# Altium footprint library Package_TO_SOT_THT.PcbLib: 236 footprints (part 13 of 15)
Each footprint in its own frame and in the unit in brackets; x right, y up, seen from the top. Pads: shape width x height; smd on the part's side, far side on the other; paste and mask are expansions set on the pad; w line width, h text height; cw(c..) or ccw(c..) is an arc to the next point about the centre after c.
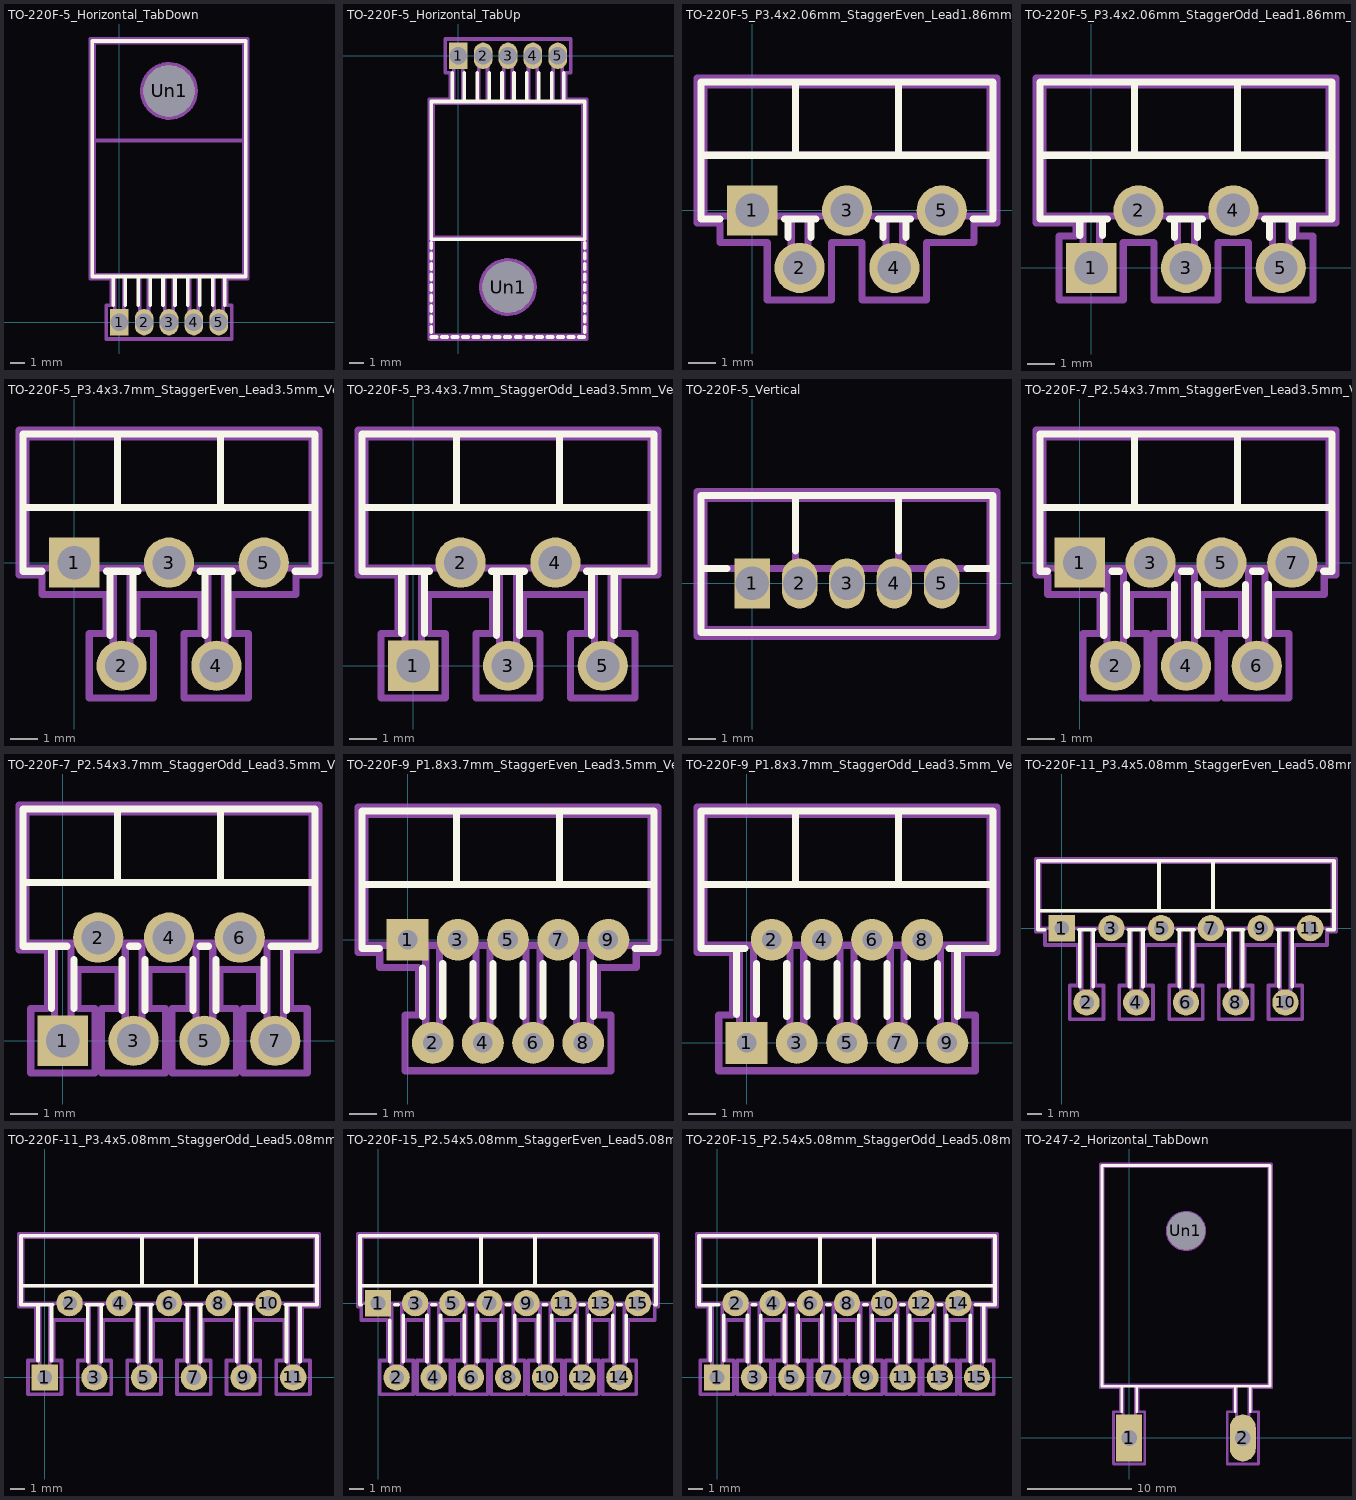
[diagram p12: the footprints below, top view; thin cyan lines are the x and y axes]

## TO-220F-5_Horizontal_TabDown [mm]
pads (6):
  rect 1.275x1.8 hole 1.2: 1(0,0)
  rrect100% 1.275x1.8 hole 1.2: 2(1.7,0) 3(3.4,0) 4(5.1,0) 5(6.8,0)
  round 3.5 hole 3.5: Un1(3.4,15.8)
F.SilkS:
  lines w0.254: -0.41,1.16 -0.41,3.12 ; 0.41,1.16 0.41,3.12 ; 1.29,1.16 1.29,3.12 ; 2.11,1.16 2.11,3.12 ; 2.99,1.16 2.99,3.12 ; 3.81,1.16 3.81,3.12 ; 4.69,1.16 4.69,3.12 ; 5.51,1.16 5.51,3.12 ; 6.39,1.16 6.39,3.12 ; 7.21,1.16 7.21,3.12 ; -1.84,3.12 -1.84,19.21 8.64,19.21 8.64,3.12 -1.84,3.12
F.Fab:
  circle w0.254: c3.4,15.8 r1.85
  lines w0.254: -1.73,12.42 -1.73,19.1 8.53,19.1 8.53,12.42 ; -1.73,12.42 8.53,12.42 ; -1.73,12.42 -1.73,3.23 8.53,3.23 8.53,12.42 ; -1.73,12.42 8.53,12.42 ; -0.3,0 -0.3,3.23 0.3,3.23 0.3,0 -0.3,0 ; 1.4,0 1.4,3.23 2,3.23 2,0 1.4,0 ; 3.1,0 3.1,3.23 3.7,3.23 3.7,0 3.1,0 ; 4.8,0 4.8,3.23 5.4,3.23 5.4,0 4.8,0 ; 6.5,0 6.5,3.23 7.1,3.23 7.1,0 6.5,0
  text "'.Designator'" at -0.647,8.26 h1
F.CrtYd:
  lines w0.254: -1.98,2.98 -1.98,19.35 8.78,19.35 8.78,2.98 7.35,2.98 7.35,1.15 7.69,1.15 7.69,-1.15 -0.89,-1.15 -0.89,1.15 -0.55,1.15 -0.55,2.98 -1.98,2.98

## TO-220F-5_Horizontal_TabUp [mm]
pads (6):
  rect 1.275x1.8 hole 1.2: 1(0,0)
  rrect100% 1.275x1.8 hole 1.2: 2(1.7,0) 3(3.4,0) 4(5.1,0) 5(6.8,0)
  round 3.5 hole 3.5: Un1(3.4,-15.8)
F.SilkS:
  lines w0.254: -1.84,-19.21 -1.48,-19.21 ; -1.84,-18.89 -1.84,-18.53 ; -1.84,-18.17 -1.84,-17.81 ; -1.84,-17.45 -1.84,-17.09 ; -1.84,-16.73 -1.84,-16.37 ; -1.84,-16.01 -1.84,-15.65 ; -1.84,-15.29 -1.84,-14.93 ; -1.84,-14.57 -1.84,-14.21 ; -1.84,-13.85 -1.84,-13.49 ; -1.84,-13.13 -1.84,-12.77 ; -1.12,-19.21 -0.76,-19.21 ; -0.41,-3.12 -0.41,-1.16 ; -0.4,-19.21 -0.04,-19.21 ; 0.32,-19.21 0.68,-19.21 ; 0.41,-3.12 0.41,-1.16 ; 1.04,-19.21 1.4,-19.21 ; 1.29,-3.12 1.29,-1.16 ; 1.76,-19.21 2.12,-19.21 ; 2.11,-3.12 2.11,-1.16 ; 2.48,-19.21 2.84,-19.21 ; 2.99,-3.12 2.99,-1.16 ; 3.2,-19.21 3.56,-19.21 ; 3.81,-3.12 3.81,-1.16 ; 3.92,-19.21 4.28,-19.21 ; 4.64,-19.21 5,-19.21 ; 4.69,-3.12 4.69,-1.16 ; 5.36,-19.21 5.72,-19.21 ; 5.51,-3.12 5.51,-1.16 ; 6.08,-19.21 6.44,-19.21 ; 6.39,-3.12 6.39,-1.16 ; 6.8,-19.21 7.16,-19.21 ; 7.21,-3.12 7.21,-1.16 ; 7.52,-19.21 7.88,-19.21 ; 8.24,-19.21 8.6,-19.21 ; 8.64,-18.89 8.64,-18.53 ; 8.64,-18.17 8.64,-17.81 ; 8.64,-17.45 8.64,-17.09 ; 8.64,-16.73 8.64,-16.37 ; 8.64,-16.01 8.64,-15.65 ; 8.64,-15.29 8.64,-14.93 ; 8.64,-14.57 8.64,-14.21 ; 8.64,-13.85 8.64,-13.49 ; 8.64,-13.13 8.64,-12.77 ; -1.84,-12.53 -1.84,-3.12 8.64,-3.12 8.64,-12.53 -1.84,-12.53
F.Fab:
  circle w0.254: c3.4,-15.8 r1.85
  lines w0.254: -1.73,-12.42 -1.73,-3.23 8.53,-3.23 8.53,-12.42 ; -1.73,-12.42 8.53,-12.42 ; -1.73,-12.42 -1.73,-19.1 8.53,-19.1 8.53,-12.42 ; -1.73,-12.42 8.53,-12.42 ; -0.3,-3.23 -0.3,0 0.3,0 0.3,-3.23 -0.3,-3.23 ; 1.4,-3.23 1.4,0 2,0 2,-3.23 1.4,-3.23 ; 3.1,-3.23 3.1,0 3.7,0 3.7,-3.23 3.1,-3.23 ; 4.8,-3.23 4.8,0 5.4,0 5.4,-3.23 4.8,-3.23 ; 6.5,-3.23 6.5,0 7.1,0 7.1,-3.23 6.5,-3.23
  text "'.Designator'" at -0.647,-9.94 h1
F.CrtYd:
  lines w0.254: -1.98,-19.35 -1.98,-2.98 -0.55,-2.98 -0.55,-1.15 -0.89,-1.15 -0.89,1.15 7.69,1.15 7.69,-1.15 7.35,-1.15 7.35,-2.98 8.78,-2.98 8.78,-19.35 -1.98,-19.35

## TO-220F-5_P3.4x2.06mm_StaggerEven_Lead1.86mm_Vertical [mm]
pads (5):
  rect 1.8x1.8 hole 1.2: 1(0,0)
  round 1.8 hole 1.2: 2(1.7,-2.06) 3(3.4,0) 4(5.1,-2.06) 5(6.8,0)
F.SilkS:
  lines w0.254: -1.84,1.98 8.64,1.98 ; -1.16,-0.31 -1.84,-0.31 -1.84,4.61 8.64,4.61 8.64,-0.31 7.918,-0.31 ; 1.16,-0.31 2.282,-0.31 ; 1.29,-0.975 1.29,-0.31 ; 1.55,1.98 1.55,4.61 ; 2.11,-0.975 2.11,-0.31 ; 4.518,-0.31 5.682,-0.31 ; 4.69,-0.975 4.69,-0.31 ; 5.25,1.98 5.25,4.61 ; 5.51,-0.975 5.51,-0.31
F.Fab:
  lines w0.254: -1.73,1.98 8.53,1.98 ; 1.55,1.98 1.55,4.5 ; 5.25,1.98 5.25,4.5 ; -1.73,-0.2 -1.73,4.5 8.53,4.5 8.53,-0.2 -1.73,-0.2 ; 1.4,-2.06 1.4,-0.2 2,-0.2 2,-2.06 1.4,-2.06 ; 4.8,-2.06 4.8,-0.2 5.4,-0.2 5.4,-2.06 4.8,-2.06
  text "'.Designator'" at -0.647,1.31 h1
F.CrtYd:
  lines w0.254: -1.98,-0.45 -1.98,4.75 8.78,4.75 8.78,-0.45 7.95,-0.45 7.95,-1.15 6.25,-1.15 6.25,-3.21 3.94,-3.21 3.94,-1.15 2.85,-1.15 2.85,-3.21 0.54,-3.21 0.54,-1.15 -1.15,-1.15 -1.15,-0.45 -1.98,-0.45

## TO-220F-5_P3.4x2.06mm_StaggerOdd_Lead1.86mm_Vertical [mm]
pads (5):
  rect 1.8x1.8 hole 1.2: 1(0,0)
  round 1.8 hole 1.2: 2(1.7,2.06) 3(3.4,0) 4(5.1,2.06) 5(6.8,0)
F.SilkS:
  lines w0.254: -1.84,4.04 8.64,4.04 ; -0.41,1.16 -0.41,1.75 ; 0.41,1.16 0.41,1.75 ; 0.582,1.75 -1.84,1.75 -1.84,6.67 8.64,6.67 8.64,1.75 6.218,1.75 ; 1.55,4.04 1.55,6.67 ; 2.818,1.75 3.982,1.75 ; 2.99,1.085 2.99,1.75 ; 3.81,1.085 3.81,1.75 ; 5.25,4.04 5.25,6.67 ; 6.39,1.085 6.39,1.75 ; 7.21,1.085 7.21,1.75
F.Fab:
  lines w0.254: -1.73,4.04 8.53,4.04 ; 1.55,4.04 1.55,6.56 ; 5.25,4.04 5.25,6.56 ; -1.73,1.86 -1.73,6.56 8.53,6.56 8.53,1.86 -1.73,1.86 ; -0.3,0 -0.3,1.86 0.3,1.86 0.3,0 -0.3,0 ; 3.1,0 3.1,1.86 3.7,1.86 3.7,0 3.1,0 ; 6.5,0 6.5,1.86 7.1,1.86 7.1,0 6.5,0
  text "'.Designator'" at -0.647,3.37 h1
F.CrtYd:
  lines w0.254: -1.98,1.61 -1.98,6.81 8.78,6.81 8.78,1.61 7.35,1.61 7.35,1.15 7.95,1.15 7.95,-1.15 5.64,-1.15 5.64,0.91 4.55,0.91 4.55,-1.15 2.25,-1.15 2.25,0.91 1.15,0.91 1.15,-1.15 -1.15,-1.15 -1.15,1.15 -0.55,1.15 -0.55,1.61 -1.98,1.61

## TO-220F-5_P3.4x3.7mm_StaggerEven_Lead3.5mm_Vertical [mm]
pads (5):
  rect 1.8x1.8 hole 1.2: 1(0,0)
  round 1.8 hole 1.2: 2(1.7,-3.7) 3(3.4,0) 4(5.1,-3.7) 5(6.8,0)
F.SilkS:
  lines w0.254: -1.84,1.98 8.64,1.98 ; -1.16,-0.31 -1.84,-0.31 -1.84,4.61 8.64,4.61 8.64,-0.31 7.918,-0.31 ; 1.16,-0.31 2.282,-0.31 ; 1.29,-2.615 1.29,-0.31 ; 1.55,1.98 1.55,4.61 ; 2.11,-2.615 2.11,-0.31 ; 4.518,-0.31 5.682,-0.31 ; 4.69,-2.615 4.69,-0.31 ; 5.25,1.98 5.25,4.61 ; 5.51,-2.615 5.51,-0.31
F.Fab:
  lines w0.254: -1.73,1.98 8.53,1.98 ; 1.55,1.98 1.55,4.5 ; 5.25,1.98 5.25,4.5 ; -1.73,-0.2 -1.73,4.5 8.53,4.5 8.53,-0.2 -1.73,-0.2 ; 1.4,-3.7 1.4,-0.2 2,-0.2 2,-3.7 1.4,-3.7 ; 4.8,-3.7 4.8,-0.2 5.4,-0.2 5.4,-3.7 4.8,-3.7
  text "'.Designator'" at -0.647,1.31 h1
F.CrtYd:
  lines w0.254: -1.98,-0.45 -1.98,4.75 8.78,4.75 8.78,-0.45 7.95,-0.45 7.95,-1.15 5.65,-1.15 5.65,-2.55 6.25,-2.55 6.25,-4.85 3.94,-4.85 3.94,-2.55 4.55,-2.55 4.55,-1.15 2.25,-1.15 2.25,-2.55 2.85,-2.55 2.85,-4.85 0.54,-4.85 0.54,-2.55 1.15,-2.55 1.15,-1.15 -1.15,-1.15 -1.15,-0.45 -1.98,-0.45

## TO-220F-5_P3.4x3.7mm_StaggerOdd_Lead3.5mm_Vertical [mm]
pads (5):
  rect 1.8x1.8 hole 1.2: 1(0,0)
  round 1.8 hole 1.2: 2(1.7,3.7) 3(3.4,0) 4(5.1,3.7) 5(6.8,0)
F.SilkS:
  lines w0.254: -1.84,5.68 8.64,5.68 ; -0.41,1.16 -0.41,3.39 ; 0.41,1.16 0.41,3.39 ; 0.582,3.39 -1.84,3.39 -1.84,8.31 8.64,8.31 8.64,3.39 6.218,3.39 ; 1.55,5.68 1.55,8.31 ; 2.818,3.39 3.982,3.39 ; 2.99,1.085 2.99,3.39 ; 3.81,1.085 3.81,3.39 ; 5.25,5.68 5.25,8.31 ; 6.39,1.085 6.39,3.39 ; 7.21,1.085 7.21,3.39
F.Fab:
  lines w0.254: -1.73,5.68 8.53,5.68 ; 1.55,5.68 1.55,8.2 ; 5.25,5.68 5.25,8.2 ; -1.73,3.5 8.53,3.5 8.53,8.2 -1.73,8.2 -1.73,3.5 ; -0.3,0 0.3,0 0.3,3.5 -0.3,3.5 -0.3,0 ; 3.1,0 3.7,0 3.7,3.5 3.1,3.5 3.1,0 ; 6.5,0 7.1,0 7.1,3.5 6.5,3.5 6.5,0
  text "'.Designator'" at -0.647,5.01 h1
F.CrtYd:
  lines w0.254: -1.98,3.25 -0.55,3.25 -0.55,1.15 -1.15,1.15 -1.15,-1.15 1.15,-1.15 1.15,1.15 0.55,1.15 0.55,2.55 2.85,2.55 2.85,1.15 2.25,1.15 2.25,-1.15 4.55,-1.15 4.55,1.15 3.95,1.15 3.95,2.55 6.25,2.55 6.25,1.15 5.64,1.15 5.64,-1.15 7.95,-1.15 7.95,1.15 7.35,1.15 7.35,3.25 8.78,3.25 8.78,8.45 -1.98,8.45 -1.98,3.25

## TO-220F-5_Vertical [mm]
pads (5):
  rect 1.275x1.8 hole 1.2: 1(0,0)
  rrect100% 1.275x1.8 hole 1.2: 2(1.7,0) 3(3.4,0) 4(5.1,0) 5(6.8,0)
F.SilkS:
  lines w0.254: -1.84,0.527 -0.898,0.527 ; 1.55,1.16 1.55,3.157 ; 5.25,1.16 5.25,3.157 ; 7.698,0.527 8.64,0.527 ; -1.84,-1.763 8.64,-1.763 8.64,3.157 -1.84,3.157 -1.84,-1.763
F.Fab:
  lines w0.254: -1.73,0.527 8.53,0.527 ; 1.55,0.527 1.55,3.047 ; 5.25,0.527 5.25,3.047 ; -1.73,-1.653 8.53,-1.653 8.53,3.047 -1.73,3.047 -1.73,-1.653
  text "'.Designator'" at -0.647,-0.14 h1
F.CrtYd:
  lines w0.254: -1.98,-1.91 8.78,-1.91 8.78,3.3 -1.98,3.3 -1.98,-1.91

## TO-220F-7_P2.54x3.7mm_StaggerEven_Lead3.5mm_Vertical [mm]
pads (7):
  rect 1.8x1.8 hole 1.2: 1(0,0)
  round 1.8 hole 1.2: 2(1.27,-3.7) 3(2.54,0) 4(3.81,-3.7) 5(5.08,0) 6(6.35,-3.7) 7(7.62,0)
F.SilkS:
  lines w0.254: -1.43,1.98 9.05,1.98 ; -1.16,-0.31 -1.43,-0.31 -1.43,4.61 9.05,4.61 9.05,-0.31 8.738,-0.31 ; 0.86,-2.615 0.86,-1.16 ; 1.16,-0.31 1.422,-0.31 ; 1.68,-2.615 1.68,-0.778 ; 1.96,1.98 1.96,4.61 ; 3.4,-2.615 3.4,-0.778 ; 3.658,-0.31 3.962,-0.31 ; 4.22,-2.615 4.22,-0.778 ; 5.66,1.98 5.66,4.61 ; 5.94,-2.615 5.94,-0.778 ; 6.198,-0.31 6.502,-0.31 ; 6.76,-2.615 6.76,-0.778
F.Fab:
  lines w0.254: -1.32,1.98 8.94,1.98 ; 1.96,1.98 1.96,4.5 ; 5.66,1.98 5.66,4.5 ; -1.32,-0.2 -1.32,4.5 8.94,4.5 8.94,-0.2 -1.32,-0.2 ; 0.97,-3.7 0.97,-0.2 1.57,-0.2 1.57,-3.7 0.97,-3.7 ; 3.51,-3.7 3.51,-0.2 4.11,-0.2 4.11,-3.7 3.51,-3.7 ; 6.05,-3.7 6.05,-0.2 6.65,-0.2 6.65,-3.7 6.05,-3.7
  text "'.Designator'" at -0.237,1.31 h1
F.CrtYd:
  lines w0.254: -1.57,-0.45 -1.57,4.75 9.19,4.75 9.19,-0.45 8.77,-0.45 8.77,-1.15 6.9,-1.15 6.9,-2.55 7.5,-2.55 7.5,-4.85 5.19,-4.85 5.19,-2.55 5.8,-2.55 5.8,-1.15 4.36,-1.15 4.36,-2.55 4.96,-2.55 4.96,-4.85 2.66,-4.85 2.66,-2.55 3.26,-2.55 3.26,-1.15 1.82,-1.15 1.82,-2.55 2.42,-2.55 2.42,-4.85 0.12,-4.85 0.12,-2.55 0.72,-2.55 0.72,-1.15 -1.15,-1.15 -1.15,-0.45 -1.57,-0.45

## TO-220F-7_P2.54x3.7mm_StaggerOdd_Lead3.5mm_Vertical [mm]
pads (7):
  rect 1.8x1.8 hole 1.2: 1(0,0)
  round 1.8 hole 1.2: 2(1.27,3.7) 3(2.54,0) 4(3.81,3.7) 5(5.08,0) 6(6.35,3.7) 7(7.62,0)
F.SilkS:
  lines w0.254: -1.43,5.68 9.05,5.68 ; -0.41,1.16 -0.41,3.39 ; 0.152,3.39 -1.43,3.39 -1.43,8.31 9.05,8.31 9.05,3.39 7.468,3.39 ; 0.41,1.16 0.41,2.922 ; 1.96,5.68 1.96,8.31 ; 2.13,1.085 2.13,2.922 ; 2.388,3.39 2.692,3.39 ; 2.95,1.085 2.95,2.922 ; 4.67,1.085 4.67,2.922 ; 4.928,3.39 5.232,3.39 ; 5.49,1.085 5.49,2.922 ; 5.66,5.68 5.66,8.31 ; 7.21,1.085 7.21,2.922 ; 8.03,1.085 8.03,3.39
F.Fab:
  lines w0.254: -1.32,5.68 8.94,5.68 ; 1.96,5.68 1.96,8.2 ; 5.66,5.68 5.66,8.2 ; -1.32,3.5 -1.32,8.2 8.94,8.2 8.94,3.5 -1.32,3.5 ; -0.3,0 -0.3,3.5 0.3,3.5 0.3,0 -0.3,0 ; 2.24,0 2.24,3.5 2.84,3.5 2.84,0 2.24,0 ; 4.78,0 4.78,3.5 5.38,3.5 5.38,0 4.78,0 ; 7.32,0 7.32,3.5 7.92,3.5 7.92,0 7.32,0
  text "'.Designator'" at -0.237,5.01 h1
F.CrtYd:
  lines w0.254: -1.57,3.25 -1.57,8.45 9.19,8.45 9.19,3.25 8.17,3.25 8.17,1.15 8.77,1.15 8.77,-1.15 6.46,-1.15 6.46,1.15 7.06,1.15 7.06,2.55 5.63,2.55 5.63,1.15 6.23,1.15 6.23,-1.15 3.92,-1.15 3.92,1.15 4.53,1.15 4.53,2.55 3.09,2.55 3.09,1.15 3.69,1.15 3.69,-1.15 1.39,-1.15 1.39,1.15 1.99,1.15 1.99,2.55 0.55,2.55 0.55,1.15 1.15,1.15 1.15,-1.15 -1.15,-1.15 -1.15,1.15 -0.55,1.15 -0.55,3.25 -1.57,3.25

## TO-220F-9_P1.8x3.7mm_StaggerEven_Lead3.5mm_Vertical [mm]
pads (9):
  rect 1.5x1.5 hole 0.7: 1(0,0)
  round 1.5 hole 0.7: 2(0.9,-3.7) 3(1.8,0) 4(2.7,-3.7) 5(3.6,0) 6(4.5,-3.7) 7(5.4,0) 8(6.3,-3.7) 9(7.2,0)
F.SilkS:
  lines w0.254: -1.64,1.98 8.84,1.98 ; -1.01,-0.31 -1.64,-0.31 -1.64,4.61 8.84,4.61 8.84,-0.31 8.161,-0.31 ; 0.54,-2.756 0.54,-1.01 ; 1.26,-2.756 1.26,-0.854 ; 1.75,1.98 1.75,4.61 ; 2.34,-2.756 2.34,-0.854 ; 3.06,-2.756 3.06,-0.854 ; 4.14,-2.756 4.14,-0.854 ; 4.86,-2.756 4.86,-0.854 ; 5.45,1.98 5.45,4.61 ; 5.94,-2.756 5.94,-0.854 ; 6.66,-2.756 6.66,-0.854
F.Fab:
  lines w0.254: -1.53,1.98 8.73,1.98 ; 1.75,1.98 1.75,4.5 ; 5.45,1.98 5.45,4.5 ; -1.53,-0.2 -1.53,4.5 8.73,4.5 8.73,-0.2 -1.53,-0.2 ; 0.65,-3.7 0.65,-0.2 1.15,-0.2 1.15,-3.7 0.65,-3.7 ; 2.45,-3.7 2.45,-0.2 2.95,-0.2 2.95,-3.7 2.45,-3.7 ; 4.25,-3.7 4.25,-0.2 4.75,-0.2 4.75,-3.7 4.25,-3.7 ; 6.05,-3.7 6.05,-0.2 6.55,-0.2 6.55,-3.7 6.05,-3.7
  text "'.Designator'" at -0.447,1.31 h1
F.CrtYd:
  lines w0.254: -1.78,-0.45 -1.78,4.75 8.98,4.75 8.98,-0.45 8.2,-0.45 8.2,-1 6.8,-1 6.8,-2.7 7.3,-2.7 7.3,-4.7 -0.1,-4.7 -0.1,-2.7 0.39,-2.7 0.39,-1 -1,-1 -1,-0.45 -1.78,-0.45

## TO-220F-9_P1.8x3.7mm_StaggerOdd_Lead3.5mm_Vertical [mm]
pads (9):
  rect 1.5x1.5 hole 0.7: 1(0,0)
  round 1.5 hole 0.7: 2(0.9,3.7) 3(1.8,0) 4(2.7,3.7) 5(3.6,0) 6(4.5,3.7) 7(5.4,0) 8(6.3,3.7) 9(7.2,0)
F.SilkS:
  lines w0.254: -1.64,5.68 8.84,5.68 ; -0.36,1.01 -0.36,3.39 ; -0.061,3.39 -1.64,3.39 -1.64,8.31 8.84,8.31 8.84,3.39 7.261,3.39 ; 0.36,1.01 0.36,2.846 ; 1.44,0.944 1.44,2.846 ; 1.75,5.68 1.75,8.31 ; 2.16,0.944 2.16,2.846 ; 3.24,0.944 3.24,2.846 ; 3.96,0.944 3.96,2.846 ; 5.04,0.944 5.04,2.846 ; 5.45,5.68 5.45,8.31 ; 5.76,0.944 5.76,2.846 ; 6.84,0.944 6.84,2.846 ; 7.56,0.944 7.56,3.39
F.Fab:
  lines w0.254: -1.53,5.68 8.73,5.68 ; 1.75,5.68 1.75,8.2 ; 5.45,5.68 5.45,8.2 ; -1.53,3.5 -1.53,8.2 8.73,8.2 8.73,3.5 -1.53,3.5 ; -0.25,0 -0.25,3.5 0.25,3.5 0.25,0 -0.25,0 ; 1.55,0 1.55,3.5 2.05,3.5 2.05,0 1.55,0 ; 3.35,0 3.35,3.5 3.85,3.5 3.85,0 3.35,0 ; 5.15,0 5.15,3.5 5.65,3.5 5.65,0 5.15,0 ; 6.95,0 6.95,3.5 7.45,3.5 7.45,0 6.95,0
  text "'.Designator'" at -0.447,5.01 h1
F.CrtYd:
  lines w0.254: -1.78,3.25 -1.78,8.45 8.98,8.45 8.98,3.25 7.7,3.25 7.7,1 8.2,1 8.2,-1 -1,-1 -1,1 -0.5,1 -0.5,3.25 -1.78,3.25

## TO-220F-11_P3.4x5.08mm_StaggerEven_Lead5.08mm_Vertical [mm]
pads (11):
  rect 1.8x1.8 hole 1: 1(0,0)
  round 1.8 hole 1: 2(1.7,-5.08) 3(3.4,0) 4(5.1,-5.08) 5(6.8,0) 6(8.5,-5.08) 7(10.2,0) 8(11.9,-5.08) 9(13.6,0) 10(15.3,-5.08) 11(17,0)
F.SilkS:
  lines w0.254: -1.62,1.2 18.62,1.2 ; -1.16,-0.11 -1.62,-0.11 -1.62,4.61 18.62,4.61 18.62,-0.11 18.155,-0.11 ; 1.16,-0.11 2.245,-0.11 ; 1.24,-4.015 1.24,-0.11 ; 2.16,-4.015 2.16,-0.11 ; 4.555,-0.11 5.645,-0.11 ; 4.64,-4.015 4.64,-0.11 ; 5.56,-4.015 5.56,-0.11 ; 6.65,1.2 6.65,4.61 ; 7.955,-0.11 9.045,-0.11 ; 8.04,-4.015 8.04,-0.11 ; 8.96,-4.015 8.96,-0.11 ; 10.35,1.2 10.35,4.61 ; 11.355,-0.11 12.445,-0.11 ; 11.44,-4.015 11.44,-0.11 ; 12.36,-4.015 12.36,-0.11 ; 14.755,-0.11 15.845,-0.11 ; 14.84,-4.015 14.84,-0.11 ; 15.76,-4.015 15.76,-0.11
F.Fab:
  lines w0.254: -1.51,1.2 18.51,1.2 ; 6.65,1.2 6.65,4.5 ; 10.35,1.2 10.35,4.5 ; -1.51,0 -1.51,4.5 18.51,4.5 18.51,0 -1.51,0 ; 1.35,-5.08 1.35,0 2.05,0 2.05,-5.08 1.35,-5.08 ; 4.75,-5.08 4.75,0 5.45,0 5.45,-5.08 4.75,-5.08 ; 8.15,-5.08 8.15,0 8.85,0 8.85,-5.08 8.15,-5.08 ; 11.55,-5.08 11.55,0 12.25,0 12.25,-5.08 11.55,-5.08 ; 14.95,-5.08 14.95,0 15.65,0 15.65,-5.08 14.95,-5.08
  text "'.Designator'" at 4.453,1.41 h1
F.CrtYd:
  lines w0.254: -1.76,-0.25 -1.76,4.75 18.76,4.75 18.76,-0.25 18.15,-0.25 18.15,-1.15 15.9,-1.15 15.9,-3.92 16.45,-3.92 16.45,-6.23 14.14,-6.23 14.14,-3.92 14.69,-3.92 14.69,-1.15 12.5,-1.15 12.5,-3.92 13.05,-3.92 13.05,-6.23 10.74,-6.23 10.74,-3.92 11.29,-3.92 11.29,-1.15 9.1,-1.15 9.1,-3.92 9.65,-3.92 9.65,-6.23 7.35,-6.23 7.35,-3.92 7.9,-3.92 7.9,-1.15 5.7,-1.15 5.7,-3.92 6.25,-3.92 6.25,-6.23 3.94,-6.23 3.94,-3.92 4.5,-3.92 4.5,-1.15 2.3,-1.15 2.3,-3.92 2.85,-3.92 2.85,-6.23 0.54,-6.23 0.54,-3.92 1.1,-3.92 1.1,-1.15 -1.15,-1.15 -1.15,-0.25 -1.76,-0.25

## TO-220F-11_P3.4x5.08mm_StaggerOdd_Lead5.08mm_Vertical [mm]
pads (11):
  rect 1.8x1.8 hole 1: 1(0,0)
  round 1.8 hole 1: 2(1.7,5.08) 3(3.4,0) 4(5.1,5.08) 5(6.8,0) 6(8.5,5.08) 7(10.2,0) 8(11.9,5.08) 9(13.6,0) 10(15.3,5.08) 11(17,0)
F.SilkS:
  lines w0.254: -1.62,6.28 18.62,6.28 ; -0.46,1.16 -0.46,4.97 ; 0.46,1.16 0.46,4.97 ; 0.545,4.97 -1.62,4.97 -1.62,9.69 18.62,9.69 18.62,4.97 16.455,4.97 ; 2.855,4.97 3.945,4.97 ; 2.94,1.065 2.94,4.97 ; 3.86,1.065 3.86,4.97 ; 6.255,4.97 7.345,4.97 ; 6.34,1.065 6.34,4.97 ; 6.65,6.28 6.65,9.69 ; 7.26,1.065 7.26,4.97 ; 9.655,4.97 10.745,4.97 ; 9.74,1.065 9.74,4.97 ; 10.35,6.28 10.35,9.69 ; 10.66,1.065 10.66,4.97 ; 13.055,4.97 14.145,4.97 ; 13.14,1.065 13.14,4.97 ; 14.06,1.065 14.06,4.97 ; 16.54,1.065 16.54,4.97 ; 17.46,1.065 17.46,4.97
F.Fab:
  lines w0.254: -1.51,6.28 18.51,6.28 ; 6.65,6.28 6.65,9.58 ; 10.35,6.28 10.35,9.58 ; -1.51,5.08 -1.51,9.58 18.51,9.58 18.51,5.08 -1.51,5.08 ; -0.35,0 -0.35,5.08 0.35,5.08 0.35,0 -0.35,0 ; 3.05,0 3.05,5.08 3.75,5.08 3.75,0 3.05,0 ; 6.45,0 6.45,5.08 7.15,5.08 7.15,0 6.45,0 ; 9.85,0 9.85,5.08 10.55,5.08 10.55,0 9.85,0 ; 13.25,0 13.25,5.08 13.95,5.08 13.95,0 13.25,0 ; 16.65,0 16.65,5.08 17.35,5.08 17.35,0 16.65,0
  text "'.Designator'" at 4.453,6.49 h1
F.CrtYd:
  lines w0.254: -1.76,4.83 -1.76,9.83 18.76,9.83 18.76,4.83 17.6,4.83 17.6,1.16 18.15,1.16 18.15,-1.15 15.84,-1.15 15.84,1.16 16.39,1.16 16.39,3.93 14.2,3.93 14.2,1.16 14.75,1.16 14.75,-1.15 12.44,-1.15 12.44,1.16 12.99,1.16 12.99,3.93 10.8,3.93 10.8,1.16 11.35,1.16 11.35,-1.15 9.04,-1.15 9.04,1.16 9.6,1.16 9.6,3.93 7.4,3.93 7.4,1.16 7.95,1.16 7.95,-1.15 5.64,-1.15 5.64,1.16 6.2,1.16 6.2,3.93 4,3.93 4,1.16 4.55,1.16 4.55,-1.15 2.25,-1.15 2.25,1.16 2.8,1.16 2.8,3.93 0.6,3.93 0.6,1.16 1.15,1.16 1.15,-1.15 -1.15,-1.15 -1.15,1.16 -0.6,1.16 -0.6,4.83 -1.76,4.83

## TO-220F-15_P2.54x5.08mm_StaggerEven_Lead5.08mm_Vertical [mm]
pads (15):
  rect 1.8x1.8 hole 1: 1(0,0)
  round 1.8 hole 1: 2(1.27,-5.08) 3(2.54,0) 4(3.81,-5.08) 5(5.08,0) 6(6.35,-5.08) 7(7.62,0) 8(8.89,-5.08) 9(10.16,0) 10(11.43,-5.08) 11(12.7,0) 12(13.97,-5.08) 13(15.24,0) 14(16.51,-5.08) 15(17.78,0)
F.SilkS:
  lines w0.254: -1.23,1.2 19.01,1.2 ; -1.16,-0.11 -1.23,-0.11 -1.23,4.61 19.01,4.61 19.01,-0.11 18.935,-0.11 ; 0.81,-4.015 0.81,-1.16 ; 1.16,-0.11 1.385,-0.11 ; 1.73,-4.015 1.73,-0.83 ; 3.35,-4.015 3.35,-0.83 ; 3.695,-0.11 3.925,-0.11 ; 4.27,-4.015 4.27,-0.83 ; 5.89,-4.015 5.89,-0.83 ; 6.235,-0.11 6.465,-0.11 ; 6.81,-4.015 6.81,-0.83 ; 7.04,1.2 7.04,4.61 ; 8.43,-4.015 8.43,-0.83 ; 8.775,-0.11 9.005,-0.11 ; 9.35,-4.015 9.35,-0.83 ; 10.74,1.2 10.74,4.61 ; 10.97,-4.015 10.97,-0.83 ; 11.315,-0.11 11.545,-0.11 ; 11.89,-4.015 11.89,-0.83 ; 13.51,-4.015 13.51,-0.83 ; 13.855,-0.11 14.085,-0.11 ; 14.43,-4.015 14.43,-0.83 ; 16.05,-4.015 16.05,-0.83 ; 16.395,-0.11 16.625,-0.11 ; 16.97,-4.015 16.97,-0.83
F.Fab:
  lines w0.254: -1.12,1.2 18.9,1.2 ; 7.04,1.2 7.04,4.5 ; 10.74,1.2 10.74,4.5 ; -1.12,0 -1.12,4.5 18.9,4.5 18.9,0 -1.12,0 ; 0.92,-5.08 0.92,0 1.62,0 1.62,-5.08 0.92,-5.08 ; 3.46,-5.08 3.46,0 4.16,0 4.16,-5.08 3.46,-5.08 ; 6,-5.08 6,0 6.7,0 6.7,-5.08 6,-5.08 ; 8.54,-5.08 8.54,0 9.24,0 9.24,-5.08 8.54,-5.08 ; 11.08,-5.08 11.08,0 11.78,0 11.78,-5.08 11.08,-5.08 ; 13.62,-5.08 13.62,0 14.32,0 14.32,-5.08 13.62,-5.08 ; 16.16,-5.08 16.16,0 16.86,0 16.86,-5.08 16.16,-5.08
  text "'.Designator'" at 4.843,1.41 h1
F.CrtYd:
  lines w0.254: -1.37,-0.25 -1.37,4.75 19.15,4.75 19.15,-0.25 18.93,-0.25 18.93,-1.15 17.11,-1.15 17.11,-3.92 17.66,-3.92 17.66,-6.23 15.35,-6.23 15.35,-3.92 15.9,-3.92 15.9,-1.15 14.57,-1.15 14.57,-3.92 15.12,-3.92 15.12,-6.23 12.81,-6.23 12.81,-3.92 13.36,-3.92 13.36,-1.15 12.03,-1.15 12.03,-3.92 12.58,-3.92 12.58,-6.23 10.27,-6.23 10.27,-3.92 10.82,-3.92 10.82,-1.15 9.49,-1.15 9.49,-3.92 10.04,-3.92 10.04,-6.23 7.73,-6.23 7.73,-3.92 8.28,-3.92 8.28,-1.15 6.95,-1.15 6.95,-3.92 7.5,-3.92 7.5,-6.23 5.19,-6.23 5.19,-3.92 5.75,-3.92 5.75,-1.15 4.41,-1.15 4.41,-3.92 4.96,-3.92 4.96,-6.23 2.66,-6.23 2.66,-3.92 3.21,-3.92 3.21,-1.15 1.87,-1.15 1.87,-3.92 2.42,-3.92 2.42,-6.23 0.12,-6.23 0.12,-3.92 0.66,-3.92 0.66,-1.15 -1.15,-1.15 -1.15,-0.25 -1.37,-0.25

## TO-220F-15_P2.54x5.08mm_StaggerOdd_Lead5.08mm_Vertical [mm]
pads (15):
  rect 1.8x1.8 hole 1: 1(0,0)
  round 1.8 hole 1: 2(1.27,5.08) 3(2.54,0) 4(3.81,5.08) 5(5.08,0) 6(6.35,5.08) 7(7.62,0) 8(8.89,5.08) 9(10.16,0) 10(11.43,5.08) 11(12.7,0) 12(13.97,5.08) 13(15.24,0) 14(16.51,5.08) 15(17.78,0)
F.SilkS:
  lines w0.254: -1.23,6.28 19.01,6.28 ; -0.46,1.16 -0.46,4.97 ; 0.115,4.97 -1.23,4.97 -1.23,9.69 19.01,9.69 19.01,4.97 17.665,4.97 ; 0.46,1.16 0.46,4.25 ; 2.08,1.065 2.08,4.25 ; 2.425,4.97 2.655,4.97 ; 3,1.065 3,4.25 ; 4.62,1.065 4.62,4.25 ; 4.965,4.97 5.195,4.97 ; 5.54,1.065 5.54,4.25 ; 7.04,6.28 7.04,9.69 ; 7.16,1.065 7.16,4.25 ; 7.505,4.97 7.735,4.97 ; 8.08,1.065 8.08,4.25 ; 9.7,1.065 9.7,4.25 ; 10.045,4.97 10.275,4.97 ; 10.62,1.065 10.62,4.25 ; 10.74,6.28 10.74,9.69 ; 12.24,1.065 12.24,4.25 ; 12.585,4.97 12.815,4.97 ; 13.16,1.065 13.16,4.25 ; 14.78,1.065 14.78,4.25 ; 15.125,4.97 15.355,4.97 ; 15.7,1.065 15.7,4.25 ; 17.32,1.065 17.32,4.25 ; 18.24,1.065 18.24,4.97
F.Fab:
  lines w0.254: -1.12,6.28 18.9,6.28 ; 7.04,6.28 7.04,9.58 ; 10.74,6.28 10.74,9.58 ; -1.12,5.08 -1.12,9.58 18.9,9.58 18.9,5.08 -1.12,5.08 ; -0.35,0 -0.35,5.08 0.35,5.08 0.35,0 -0.35,0 ; 2.19,0 2.19,5.08 2.89,5.08 2.89,0 2.19,0 ; 4.73,0 4.73,5.08 5.43,5.08 5.43,0 4.73,0 ; 7.27,0 7.27,5.08 7.97,5.08 7.97,0 7.27,0 ; 9.81,0 9.81,5.08 10.51,5.08 10.51,0 9.81,0 ; 12.35,0 12.35,5.08 13.05,5.08 13.05,0 12.35,0 ; 14.89,0 14.89,5.08 15.59,5.08 15.59,0 14.89,0 ; 17.43,0 17.43,5.08 18.13,5.08 18.13,0 17.43,0
  text "'.Designator'" at 4.843,6.49 h1
F.CrtYd:
  lines w0.254: -1.37,4.83 -1.37,9.83 19.15,9.83 19.15,4.83 18.38,4.83 18.38,1.16 18.93,1.16 18.93,-1.15 16.62,-1.15 16.62,1.16 17.17,1.16 17.17,3.93 15.84,3.93 15.84,1.16 16.39,1.16 16.39,-1.15 14.08,-1.15 14.08,1.16 14.63,1.16 14.63,3.93 13.3,3.93 13.3,1.16 13.85,1.16 13.85,-1.15 11.54,-1.15 11.54,1.16 12.09,1.16 12.09,3.93 10.76,3.93 10.76,1.16 11.31,1.16 11.31,-1.15 9,-1.15 9,1.16 9.55,1.16 9.55,3.93 8.22,3.93 8.22,1.16 8.77,1.16 8.77,-1.15 6.46,-1.15 6.46,1.16 7.02,1.16 7.02,3.93 5.68,3.93 5.68,1.16 6.23,1.16 6.23,-1.15 3.92,-1.15 3.92,1.16 4.48,1.16 4.48,3.93 3.14,3.93 3.14,1.16 3.69,1.16 3.69,-1.15 1.39,-1.15 1.39,1.16 1.94,1.16 1.94,3.93 0.6,3.93 0.6,1.16 1.15,1.16 1.15,-1.15 -1.15,-1.15 -1.15,1.16 -0.6,1.16 -0.6,4.83 -1.37,4.83

## TO-247-2_Horizontal_TabDown [mm]
pads (3):
  rect 2.5x4.5 hole 1.5: 1(0,0)
  rrect100% 2.5x4.5 hole 1.5: 2(10.9,0)
  round 3.6 hole 3.6: Un1(5.45,19.86)
F.SilkS:
  lines w0.254: -0.71,2.51 -0.71,4.97 ; 0.71,2.51 0.71,4.97 ; 10.19,2.51 10.19,4.97 ; 11.61,2.51 11.61,4.97 ; -2.61,4.97 -2.61,26.14 13.51,26.14 13.51,4.97 -2.61,4.97
F.Fab:
  circle w0.254: c5.45,19.86 r1.805
  lines w0.254: -2.5,5.08 -2.5,26.03 13.4,26.03 13.4,5.08 -2.5,5.08 ; -0.6,0 -0.6,5.08 0.6,5.08 0.6,0 -0.6,0 ; 10.3,0 10.3,5.08 11.5,5.08 11.5,0 10.3,0
  text "'.Designator'" at 1.403,11.05 h1
F.CrtYd:
  lines w0.254: -2.75,4.82 -2.75,26.28 13.65,26.28 13.65,4.82 11.75,4.82 11.75,2.5 12.4,2.5 12.4,-2.5 9.4,-2.5 9.4,2.5 10.05,2.5 10.05,4.82 0.85,4.82 0.85,2.5 1.5,2.5 1.5,-2.5 -1.5,-2.5 -1.5,2.5 -0.85,2.5 -0.85,4.82 -2.75,4.82